# Altium footprint library 3216.PcbLib: 1 footprints
Each footprint in its own frame and in the unit in brackets; x right, y up, seen from the top. Pads: shape width x height; smd on the part's side, far side on the other; paste and mask are expansions set on the pad; w line width, h text height; cw(c..) or ccw(c..) is an arc to the next point about the centre after c.
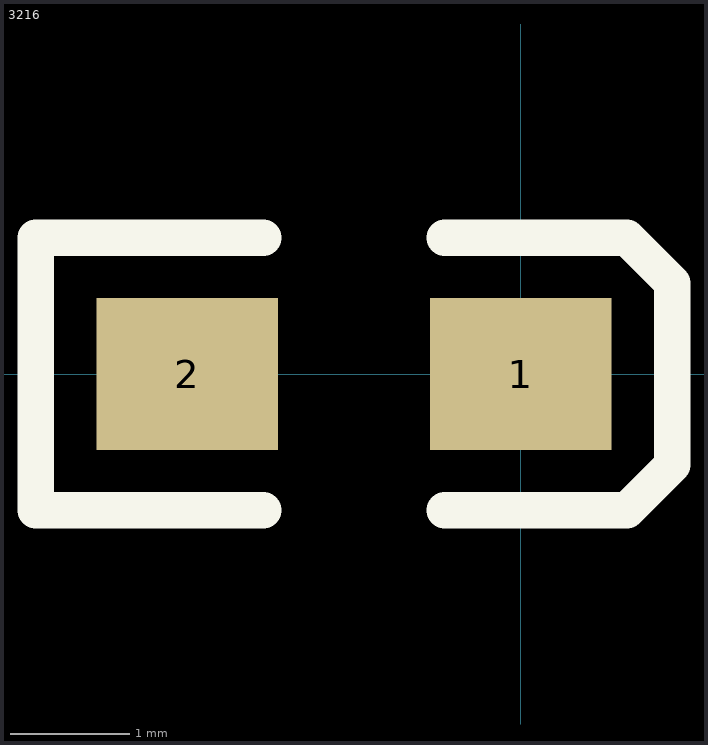
[diagram p0: the footprint, top view; thin cyan lines are the x and y axes]

## 3216 [mil]
height 35
pads (2):
  rect 60x50 smd: 1(0,0) 2(-110,0)
TopOverlay:
  lines w12: -85,-45 -160,-45 -160,45 -85,45 ; -25,-45 35,-45 50,-30 50,30 35,45 -25,45
Mechanical4:
  text ".1" at 0,0 h1
3D body: height 63.59, standoff 0.6, extent -118.65,-32.14 7.34,30.86